# EAGLE library part LM339 (library IC)
Quad Comparator
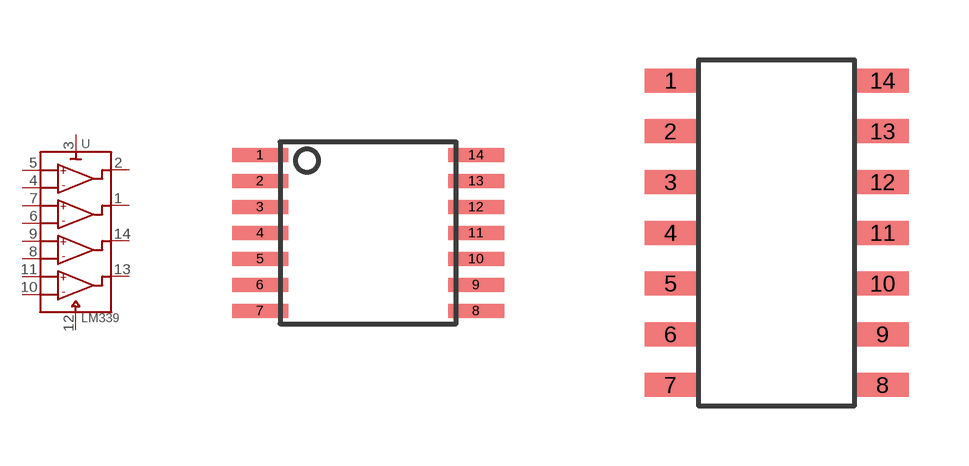
[diagram p13: symbol with the pads of TSSOP-14; footprints TSSOP-14, SOIC-3.9MM-14]

Designator prefix U

## LM339TSSOP (MPN: LMV339IPWR)  [TSSOP-14]
1  2O
2  1O
3  VCC
4  1-
5  1+
6  2-
7  2+
8  3-
9  3+
10  4-
11  4+
12  GND
13  4O
14  3O

## LM339SO (MPN: LMV339IDR)  [SOIC-3.9MM-14]
Pads as for TSSOP-14

## Footprint TSSOP-14 (pad centres in mm)
smd 1.4 x 0.35: 1 -2.7,1.625; 2 -2.7,0.975; 3 -2.7,0.325; 4 -2.7,-0.325; 5 -2.7,-0.975; 6 -2.7,-1.625; 7 -2.7,-2.275; 8 2.7,-2.275; 9 2.7,-1.625; 10 2.7,-0.975; 11 2.7,-0.325; 12 2.7,0.325; 13 2.7,0.975; 14 2.7,1.625

## Footprint SOIC-3.9MM-14 (pad centres in mm)
smd 1.3 x 0.6: 1 -2.65,3.81; 2 -2.65,2.54; 3 -2.65,1.27; 4 -2.65,0; 5 -2.65,-1.27; 6 -2.65,-2.54; 7 -2.65,-3.81; 8 2.65,-3.81; 9 2.65,-2.54; 10 2.65,-1.27; 11 2.65,0; 12 2.65,1.27; 13 2.65,2.54; 14 2.65,3.81